# Altium footprint library ResistorSMD.PcbLib: 2 footprints
Each footprint in its own frame and in the unit in brackets; x right, y up, seen from the top. Pads: shape width x height; smd on the part's side, far side on the other; paste and mask are expansions set on the pad; w line width, h text height; cw(c..) or ccw(c..) is an arc to the next point about the centre after c.
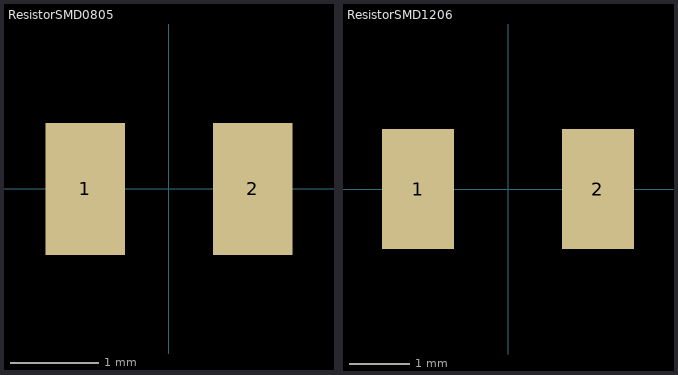
[diagram p0: the footprints below, top view; thin cyan lines are the x and y axes]

## ResistorSMD0805 [mm]
pads (2):
  rect 0.9x1.5 smd: 1(-0.95,0) 2(0.95,0)
3D body: height 0.43, standoff -0.03, extent -1,-0.63 1,0.63

## ResistorSMD1206 [mm]
pads (2):
  rect 1.2x2 smd: 1(-1.5,0) 2(1.5,0)
3D body: height 0.85, standoff 0, extent -1.675,-0.865 1.675,0.865